# Altium footprint library FR302.PcbLib: 2 footprints
Each footprint in its own frame and in the unit in brackets; x right, y up, seen from the top. Pads: shape width x height; smd on the part's side, far side on the other; paste and mask are expansions set on the pad; w line width, h text height; cw(c..) or ccw(c..) is an arc to the next point about the centre after c.
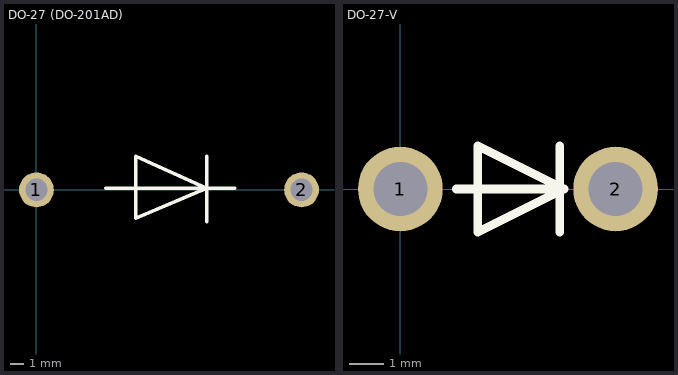
[diagram p0: the footprints below, top view; thin cyan lines are the x and y axes]

## DO-27 (DO-201AD) [mm]
pads (2):
  round 2.5 hole 1.6: 1(0,0) 2(19,0)
Top Overlay:
  lines w0.254: 4.953,0.127 12.192,0.127 ; 12.192,-2.286 12.192,0.127 ; 12.192,2.413 12.192,0.127 ; 14.224,0.127 12.192,0.127 ; 12.192,0.127 7.112,-2.032 7.112,2.413 12.192,0.127
3D body: height 7.75, standoff -7.75, extent 4.191,-0.762 4.191,-0.762
3D body: height 7.75, standoff -7.75, extent 4.064,-0.381 4.064,-0.381
3D body "DO-201AD(DO-27).step": height 6.82, standoff -2.8, extent -0.545,-2.794 19.595,2.846

## DO-27-V [mm]
pads (2):
  round 2.5 hole 1.6: 1(0,0) 2(6.35,0)
Top Overlay:
  lines w0.254: 1.651,0 4.826,0 ; 4.699,-1.27 4.699,1.27 ; 4.826,0 2.286,-1.27 2.286,1.27 4.826,0
3D body: height 7.75, standoff -7.75, extent -1.27,-5.969 -1.27,-5.969
3D body: height 7.75, standoff -7.75, extent -1.143,-6.35 -1.143,-6.35
3D body "DO-201AV.STEP": height 15.69, standoff -3, extent -2.8,-2.8 7.09,2.8